# Altium schematic symbol library ECS-80-20-20BM-EN-TR.SchLib: 1 symbol
Pins are listed as number, name and electrical type; pins without a type are passive.

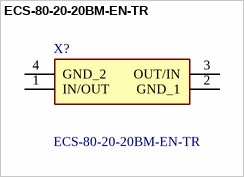
[diagram p0: symbol ECS-80-20-20BM-EN-TR]

## ECS-80-20-20BM-EN-TR
designator X?
Crystals 8.000MHZ 20pF CSM-8M +/-30/50ppm -40C -85C. 60 Ohm Fund. 7 x 5, 4 Pad RoHS; Manufacturer_Name: ECS; Geometry.Height: 1.3mm; Mouser Part Number: 520-ECS-802020BMENTR; Mouser Price/Stock: https://www.mouser.co.uk/ProductDetail/ECS/ECS-80-20-20BM-EN-TR?qs=3Rah4i%252BhyCEvSjMjFbrNOA%3D%3D; Manufacturer_Part_Number: ECS-80-20-20BM-EN-TR; Datasheet Link: https://ecsxtal.com/store/pdf/csm-8mr.pdf
footprint ECS802020BMENTR
pins: 1 IN/OUT, 2 GND_1, 3 OUT/IN, 4 GND_2